# Altium footprint library PcbLib1.PcbLib: 1 footprints
Each footprint in its own frame and in the unit in brackets; x right, y up, seen from the top. Pads: shape width x height; smd on the part's side, far side on the other; paste and mask are expansions set on the pad; w line width, h text height; cw(c..) or ccw(c..) is an arc to the next point about the centre after c.
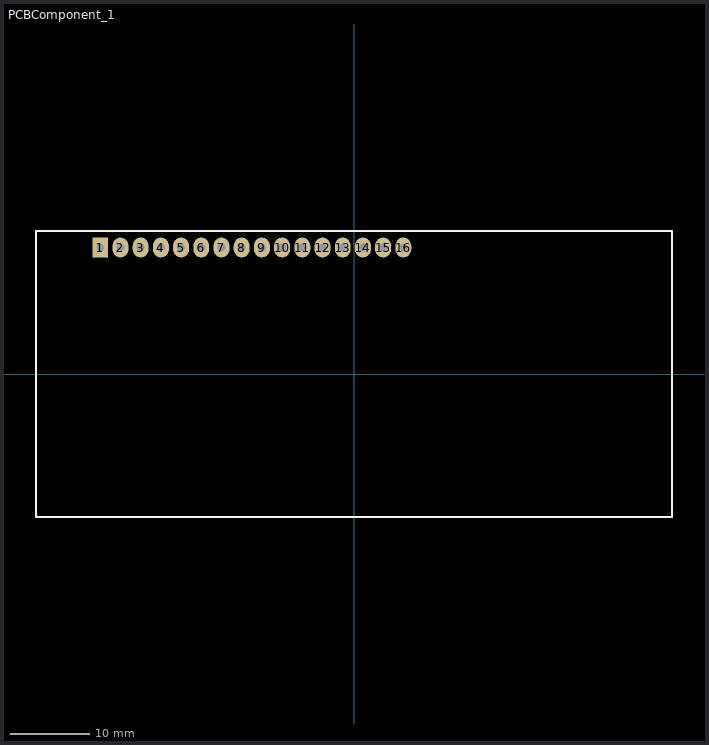
[diagram p0: the footprint, top view; thin cyan lines are the x and y axes]

## PCBComponent_1 [mm]
pads (16):
  rect 2x2.5 hole 1: 1(-31.9,15.9)
  oval 2x2.5 hole 1: 2(-29.36,15.9) 3(-26.82,15.9) 4(-24.28,15.9) 5(-21.74,15.9) 6(-19.2,15.9) 7(-16.66,15.9) 8(-14.12,15.9) 9(-11.58,15.9) 10(-9.04,15.9) 11(-6.5,15.9) 12(-3.96,15.9) 13(-1.42,15.9) 14(1.12,15.9) 15(3.66,15.9) 16(6.2,15.9)
Top Overlay:
  lines w0.254: -40,-18 40,-18 40,18 -40,18 -40,-18
Bottom Overlay:
  lines w0.254: -5,0 0,0 ; 0,-5 0,5 0,0 ; 4.9,0 0,0
Mechanical 1:
  lines w0.254: -40,-18 40,-18 40,18 -40,18 -40,-18
3D body "User Library-LCD1602.STEP": height 11.05, standoff -1, extent -39.884,-18.026 40.116,17.974